# EAGLE library part SMD-BUTTON(6P-10X10X8.6MM) (library Seeed-OPL-Switch)
311110002
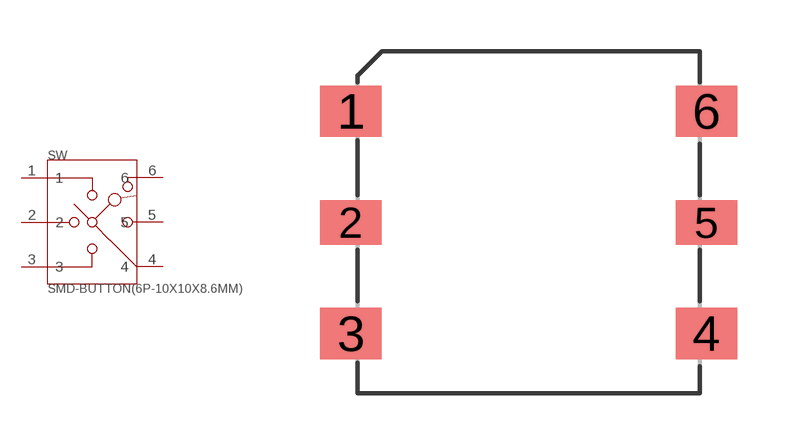
[diagram p5: symbol with the pads of SW6-3.25-10X10X8.6MM; footprint SW6-3.25-10X10X8.6MM]

Designator prefix SW

## SMD-BUTTON(6P-10X10X8.6MM)-SKQUDBE010  [SW6-3.25-10X10X8.6MM]
1  1
2  2
3  3
4  4
5  5
6  6

## Footprint SW6-3.25-10X10X8.6MM (pad centres in mm)
smd 1.8 x 1.5: 1 -5.2,3.25; 3 -5.2,-3.25; 4 5.2,-3.25; 6 5.2,3.25
smd 1.8 x 1.3: 2 -5.2,0; 5 5.2,0